# Altium schematic symbol library EnclosurePlusFasteners.SchLib: 1 symbol
Pins are listed as number, name and electrical type; pins without a type are passive.

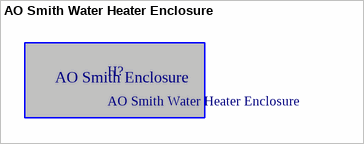
[diagram p0: symbol AO Smith Water Heater Enclosure]

## AO Smith Water Heater Enclosure
designator H?
footprint AO Smith Water Heater Enclosure (AO Smith's Smart Water Heater Control Panel Enclosure)
footprint AO Smith Water Heater Enclosure wo/ LCD and Buttons (AO Smith's Smart Water Heater Control Panel Enclosure Without LCD and Button Markings)
footprint AO Smith Water Heater Enclosure wo/ Buttons (AO Smith's Smart Water Heater Control Panel Enclosure Without Button Markings)
text: AO Smith Enclosure